# Altium schematic symbol library TC1508S.SchLib: 1 symbol
Pins are listed as number, name and electrical type; pins without a type are passive.

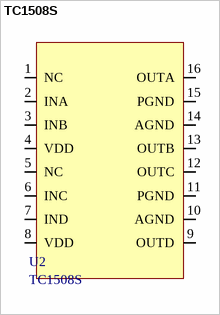
[diagram p0: symbol TC1508S]

## TC1508S
designator U2
footprint TC1508S (Footprint not found)
pins: 1 NC, 2 INA, 3 INB, 4 VDD, 5 NC, 6 INC, 7 IND, 8 VDD, 9 OUTD, 10 AGND, 11 PGND, 12 OUTC, 13 OUTB, 14 AGND, 15 PGND, 16 OUTA